# EAGLE library part INA240A*?R (library motor_controller)
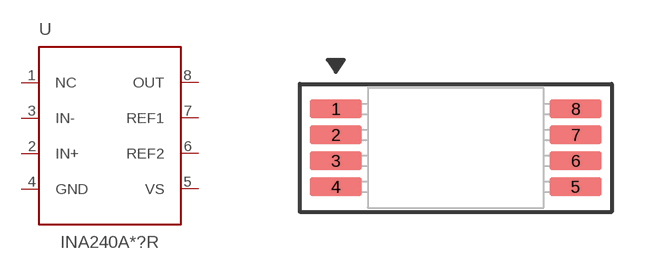
[diagram p5: symbol with the pads of TSSOP-8; footprint TSSOP-8]

Designator prefix U

## INA240APWR, INA240A1PWR (MF: Texas Instruments; MOUSER: 595-INA240A1PWR; MPN: INA240A1PWR), INA240A2PWR (MF: Texas Instruments; MOUSER: 595-INA240A2PWR; MPN: INA240A2PWR), INA240A3PWR (MF: Texas Instruments; MOUSER: 595-INA240A3PWR; MPN: INA240A3PWR), INA240A4PWR (MF: Texas Instruments; MOUSER: 595-INA240A4PWR; MPN: INA240A4PWR)  [TSSOP-8]
1  NC  nc
2  IN+  in
3  IN-  in
4  GND  pwr
5  VS  pwr
6  REF2  in
7  REF1  in
8  OUT  out

## Footprint TSSOP-8 (pad centres in mm)
Plastic Small Outline
smd 1.3 x 0.45: 1 -3,0.975; 2 -3,0.325; 3 -3,-0.325; 4 -3,-0.975; 5 3,-0.975; 6 3,-0.325; 7 3,0.325; 8 3,0.975